# Altium footprint library RPSLib_IC_Misc.PcbLib: 6 footprints
Each footprint in its own frame and in the unit in brackets; x right, y up, seen from the top. Pads: shape width x height; smd on the part's side, far side on the other; paste and mask are expansions set on the pad; w line width, h text height; cw(c..) or ccw(c..) is an arc to the next point about the centre after c.
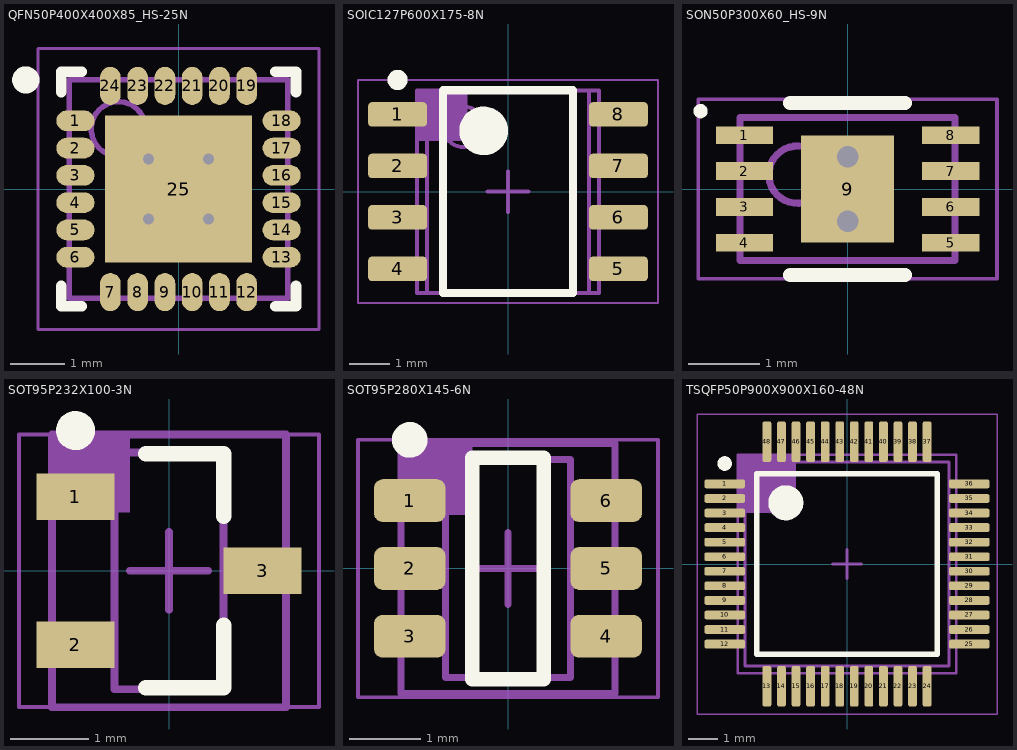
[diagram p0: the footprints below, top view; thin cyan lines are the x and y axes]

## QFN50P400X400X85_HS-25N [mm] "QFN, 24-Leads, Body 4,00x4,00mm, Pitch 0,50mm, Thermal Pad 2,70x2,70mm, IPC Medium Density"
height 0.85
pads (25):
  oval 0.7x0.38 smd: 1(-1.89,1.25) 2(-1.89,0.75) 3(-1.89,0.25) 4(-1.89,-0.25) 5(-1.89,-0.75) 6(-1.89,-1.25) 13(1.89,-1.25) 14(1.89,-0.75) 15(1.89,-0.25) 16(1.89,0.25) 17(1.89,0.75) 18(1.89,1.25)
  oval 0.38x0.7 smd: 7(-1.25,-1.89) 8(-0.75,-1.89) 9(-0.25,-1.89) 10(0.25,-1.89) 11(0.75,-1.89) 12(1.25,-1.89) 19(1.25,1.89) 20(0.75,1.89) 21(0.25,1.89) 22(-0.25,1.89) 23(-0.75,1.89) 24(-1.25,1.89)
  rect 2.7x2.7 smd: 25(0,0)
via -0.55,0.55 diameter 0.5 hole 0.2
via 0.55,0.55 diameter 0.5 hole 0.2
via -0.55,-0.55 diameter 0.5 hole 0.2
via 0.55,-0.55 diameter 0.5 hole 0.2
Top Overlay:
  circle w0.25: c-2.8,2 r0.125
  lines w0.2: -2.15,-1.775 -2.15,-2.15 -1.775,-2.15 ; -2.15,1.775 -2.15,2.15 -1.775,2.15 ; 1.775,-2.15 2.15,-2.15 2.15,-1.775 ; 1.775,2.15 2.15,2.15 2.15,1.775
Mechanical 13:
  circle w0.1: c-1.1,1.1 r0.5
  lines w0.1: -2,-2 -2,2 2,2 2,-2 -2,-2
Mechanical 15:
  lines w0.05: -2.575,-2.575 -2.575,2.575 2.575,2.575 2.575,-2.575 -2.575,-2.575
  lines w0.1: -0.5,0 0.5,0 ; 0,-0.5 0,0.5
3D body "QFN50P400X400X85_HS-25N.step": height 0.85, standoff 0, extent -2.01,-2.01 2.01,2.01

## SOIC127P600X175-8N [mm] "SOIC, 8-Leads, Body 4.90x3.90mm, Pitch 1.27mm, IPC Medium Density"
height 1.75
pads (8):
  rrect30% 1.45x0.6 smd paste+0: 1(-2.725,1.905) 2(-2.725,0.635) 3(-2.725,-0.635) 4(-2.725,-1.905) 5(2.725,-1.905) 6(2.725,-0.635) 7(2.725,0.635) 8(2.725,1.905)
Top Overlay:
  circle w0.25: c-2.725,2.755 r0.125
  circle w0.6: c-0.6,1.5 r0.3
  lines w0.2: -1.6,-2.5 -1.6,2.5 1.6,2.5 1.6,-2.5 -1.6,-2.5
Mechanical 1:
  rectangle: -2.25,1.25 -1,2.5
  lines w0.1: -2.25,-2.5 -2.25,2.5 2.25,2.5 2.25,-2.5 -2.25,-2.5
  text ".Designator" at -1.126,-0.113 h0.5
Mechanical 13:
  circle w0.1: c-1.1,1.6 r0.5
  lines w0.1: -2,-2.5 -2,2.5 2,2.5 2,-2.5 -2,-2.5
Mechanical 15:
  lines w0.05: -3.7,-2.75 -3.7,2.75 3.7,2.75 3.7,-2.75 -3.7,-2.75
  lines w0.1: -0.5,0 0.5,0 ; 0,-0.5 0,0.5
3D body "SOIC127P600X175-8N.step": height 1.75, standoff 0, extent -3,-2.5 3,2.5

## SON50P300X60_HS-9N [mm] "SON, 8-Leads, Body 2,00x3,00mm, Pitch 0,50mm, Thermal Pad 1,50x1,30mm, IPC Medium Density"
height 0.6
pads (9):
  rect 0.8x0.25 smd mask+0.07: 1(-1.44,0.75) 2(-1.44,0.25) 3(-1.44,-0.25) 4(-1.44,-0.75) 5(1.44,-0.75) 6(1.44,-0.25) 7(1.44,0.25) 8(1.44,0.75)
  rect 1.3x1.5 smd paste-0.65 mask+0.07: 9(0,0)
via 0,-0.45 diameter 0.6 hole 0.3
via 0,0.45 diameter 0.6 hole 0.3
Top Overlay:
  circle w0.1: c-2.052,1.087 r0.05
  lines w0.2: -0.8,-1.2 0.8,-1.2 ; -0.8,1.2 0.8,1.2
Mechanical 13:
  circle w0.1: c-0.7,0.2 r0.4
  lines w0.1: -1.5,-1 -1.5,1 1.5,1 1.5,-1 -1.5,-1
Mechanical 15:
  lines w0.05: -2.085,-1.25 -2.085,1.25 2.085,1.25 2.085,-1.25 -2.085,-1.25
  lines w0.1: -0.5,0 0.5,0 ; 0,-0.5 0,0.5
3D body "SON50P300X60_HS-9N.step": height 0.6, standoff 0, extent -1.6,-1 1.6,1

## SOT95P232X100-3N [mm] "SOT23, 3-Leads, Body 2.92x2.32mm, Pitch 0.95mm, IPC Medium Density"
height 1
pads (3):
  rect 1x0.6 smd paste-0.03: 1(-1.2,0.95) 2(-1.2,-0.95) 3(1.2,0)
Top Overlay:
  circle w0.25: c-1.2,1.8 r0.125
  lines w0.2: -0.3,-1.5 0.7,-1.5 0.7,-0.7 ; -0.3,1.5 0.7,1.5 0.7,0.7
Mechanical 1:
  rectangle: -1.5,0.75 -0.5,1.75
  lines w0.1: -1.5,-1.75 1.5,-1.75 1.5,1.75 -1.5,1.75 -1.5,-1.75
  text ".Designator" at -1.126,-0.113 h0.5
Mechanical 13:
  lines w0.1: -0.7,-1.52 -0.7,1.52 0.7,1.52 0.7,-1.52 -0.7,-1.52
Mechanical 15:
  lines w0.05: -1.925,-1.75 -1.925,1.75 1.925,1.75 1.925,-1.75 -1.925,-1.75
  lines w0.1: -0.5,0 0.5,0 ; 0,-0.5 0,0.5
3D body "SOT95P232X100-3N.step": height 1, standoff 0, extent -1.32,-1.52 1.32,1.52

## SOT95P280X145-6N [mm] "SOT23, 6-Leads, Body 2.92x2.80mm, Pitch 0.95mm, IPC Medium Density"
height 1.45
pads (6):
  rrect40% 1x0.6 smd mask+0.07: 1(-1.375,0.95) 2(-1.375,0) 3(-1.375,-0.95) 4(1.375,-0.95) 5(1.375,0) 6(1.375,0.95)
Top Overlay:
  circle w0.25: c-1.375,1.8 r0.125
  lines w0.2: -0.5,-1.55 0.5,-1.55 0.5,1.55 -0.5,1.55 -0.5,-1.55
Mechanical 1:
  rectangle: -1.5,0.75 -0.5,1.75
  lines w0.1: -1.5,-1.75 -1.5,1.75 1.5,1.75 1.5,-1.75 -1.5,-1.75
  text ".Designator" at -1.126,-0.113 h0.5
Mechanical 13:
  lines w0.1: -0.875,-1.525 -0.875,1.525 0.875,1.525 0.875,-1.525 -0.875,-1.525
Mechanical 15:
  lines w0.05: -2.1,-1.8 -2.1,1.8 2.1,1.8 2.1,-1.8 -2.1,-1.8
  lines w0.1: -0.5,0 0.5,0 ; 0,-0.5 0,0.5
3D body "SOT95P280X145-6N_.step": height 1.45, standoff 0, extent -1.6,-1.525 1.6,1.525

## TSQFP50P900X900X160-48N [mm] "TSQFP, 48-Leads, Body 7,00x7,00mm, Pitch 0,50mm, IPC Medium Density"
height 1.6
pads (48):
  rrect50% 1.4x0.3 smd: 1(-4.2,2.75) 2(-4.2,2.25) 3(-4.2,1.75) 4(-4.2,1.25) 5(-4.2,0.75) 6(-4.2,0.25) 7(-4.2,-0.25) 8(-4.2,-0.75) 9(-4.2,-1.25) 10(-4.2,-1.75) 11(-4.2,-2.25) 12(-4.2,-2.75) 25(4.2,-2.75) 26(4.2,-2.25) 27(4.2,-1.75) 28(4.2,-1.25) 29(4.2,-0.75) 30(4.2,-0.25) 31(4.2,0.25) 32(4.2,0.75) 33(4.2,1.25) 34(4.2,1.75) 35(4.2,2.25) 36(4.2,2.75)
  rrect50% 0.3x1.4 smd: 13(-2.75,-4.2) 14(-2.25,-4.2) 15(-1.75,-4.2) 16(-1.25,-4.2) 17(-0.75,-4.2) 18(-0.25,-4.2) 19(0.25,-4.2) 20(0.75,-4.2) 21(1.25,-4.2) 22(1.75,-4.2) 23(2.25,-4.2) 24(2.75,-4.2) 37(2.75,4.2) 38(2.25,4.2) 39(1.75,4.2) 40(1.25,4.2) 41(0.75,4.2) 42(0.25,4.2) 43(-0.25,4.2) 44(-0.75,4.2) 45(-1.25,4.2) 46(-1.75,4.2) 47(-2.25,4.2) 48(-2.75,4.2)
Top Overlay:
  circle w0.6: c-2.1,2.1 r0.3
  circle w0.25: c-4.2,3.45 r0.125
  lines w0.2: -3.1,-3.1 3.1,-3.1 3.1,3.1 -3.1,3.1 -3.1,-3.1
Mechanical 1:
  rectangle: -3.75,1.75 -1.75,3.75
  lines w0.1: -3.75,-3.75 -3.75,3.75 3.75,3.75 3.75,-3.75 -3.75,-3.75
  text ".Designator" at -2.253,-0.226 h1
Mechanical 13:
  circle w0.1: c-2.6,2.6 r0.5
  lines w0.1: -3.5,-3.5 3.5,-3.5 3.5,3.5 -3.5,3.5 -3.5,-3.5
Mechanical 15:
  lines w0.05: -5.15,-5.15 5.15,-5.15 5.15,5.15 -5.15,5.15 -5.15,-5.15
  lines w0.1: -0.5,0 0.5,0 ; 0,-0.5 0,0.5
3D body "TSQFP50P900X900X160-48N.step": height 1.6, standoff 0, extent -4.5,-4.5 4.5,4.5